# Altium schematic symbol library 6903 6728 xx 76.SchLib: 12 symbols
Pins are listed as number, name and electrical type; pins without a type are passive.

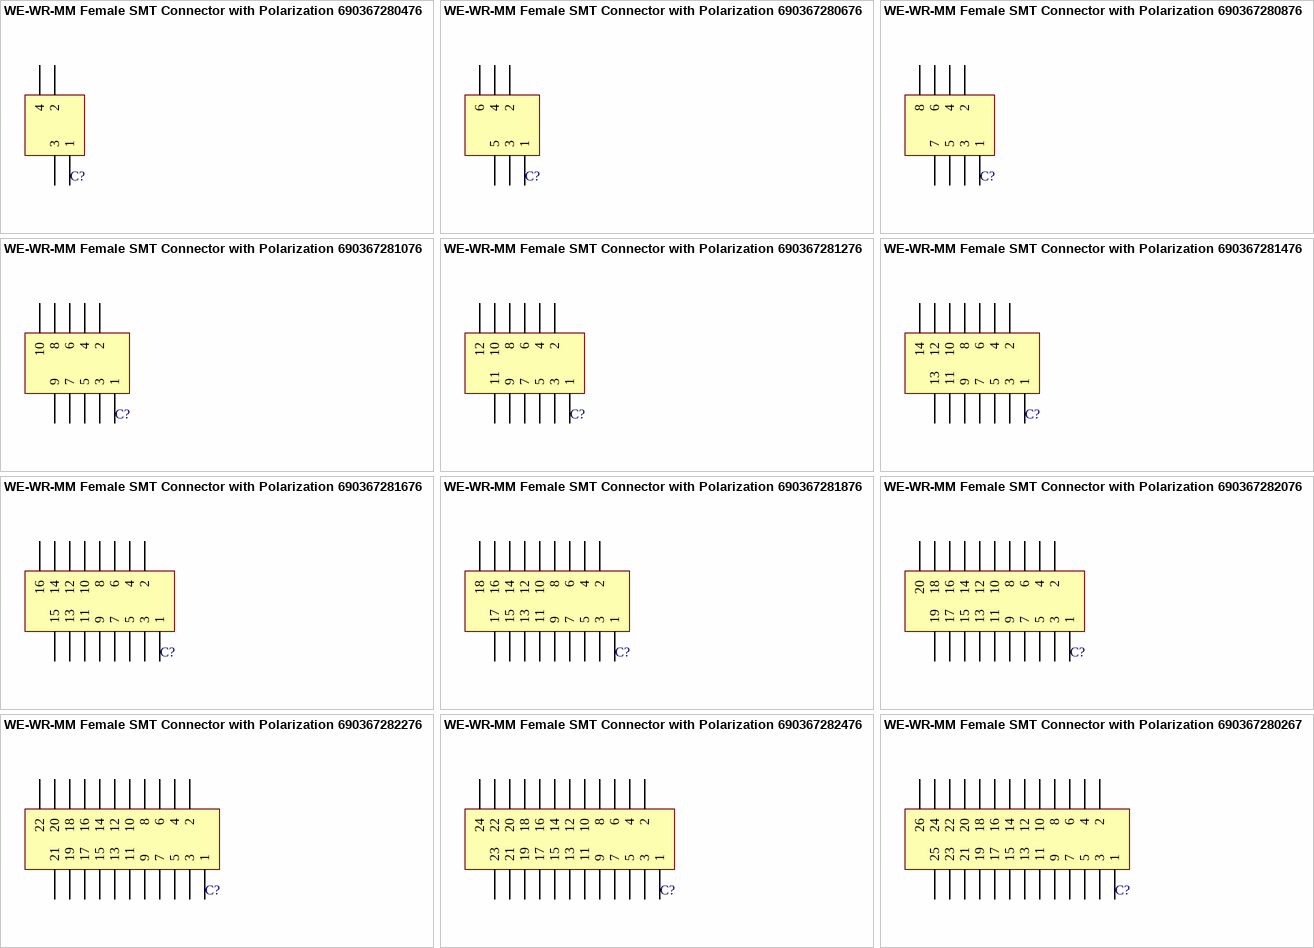
[diagram p0: symbols WE-WR-MM Female SMT Connector with Polarization 690367280476 to WE-WR-MM Female SMT Connector with Polarization 6903672802676]

## WE-WR-MM Female SMT Connector with Polarization 690367280476
designator C?
WR-MM Female SMT Connector with Polarization; Manufacturer: Würth Elektronik eiSos GmbH; ComponentLink1 Description: Manufacturer; ComponentLink2 Description: Datasheet; NoPins: 4; Created Date: 17 April 2013; partNo: 690367280476; ComponentLink1URL: http://www.we-online.com; ComponentLink2URL: http://katalog.we-online.de/em/datasheet/69036728xx76.pdf; Created by: Karrer Zheng
footprint 690367280476 (without Latch, 4 pins, SMT, straight)
pins: 1, 2, 3, 4

## WE-WR-MM Female SMT Connector with Polarization 690367280676
designator C?
WR-MM Female SMT Connector with Polarization; Manufacturer: Würth Elektronik eiSos GmbH; ComponentLink1 Description: Manufacturer; ComponentLink2 Description: Datasheet; NoPins: 6; Created Date: 17 April 2013; partNo: 690367280676; ComponentLink1URL: http://www.we-online.com; ComponentLink2URL: http://katalog.we-online.de/em/datasheet/69036728xx76.pdf; Created by: Karrer Zheng
footprint 690367280676 (without Latch, 6 pins, SMT, straight)
pins: 1, 2, 3, 4, 5, 6

## WE-WR-MM Female SMT Connector with Polarization 690367280876
designator C?
WR-MM Female SMT Connector with Polarization; Manufacturer: Würth Elektronik eiSos GmbH; ComponentLink1 Description: Manufacturer; ComponentLink2 Description: Datasheet; NoPins: 8; Created Date: 17 April 2013; partNo: 690367280876; ComponentLink1URL: http://www.we-online.com; ComponentLink2URL: http://katalog.we-online.de/em/datasheet/69036728xx76.pdf; Created by: Karrer Zheng
footprint 690367280876 (without Latch, 8 pins, SMT, straight)
pins: 1, 2, 3, 4, 5, 6, 7, 8

## WE-WR-MM Female SMT Connector with Polarization 690367281076
designator C?
WR-MM Female SMT Connector with Polarization; Manufacturer: Würth Elektronik eiSos GmbH; ComponentLink1 Description: Manufacturer; ComponentLink2 Description: Datasheet; NoPins: 10; Created Date: 17 April 2013; partNo: 690367281076; ComponentLink1URL: http://www.we-online.com; ComponentLink2URL: http://katalog.we-online.de/em/datasheet/69036728xx76.pdf; Created by: Karrer Zheng
footprint 690367281076 (without Latch, 10 pins, SMT, straight)
pins: 1, 2, 3, 4, 5, 6, 7, 8, 9, 10

## WE-WR-MM Female SMT Connector with Polarization 690367281276
designator C?
WR-MM Female SMT Connector with Polarization; Manufacturer: Würth Elektronik eiSos GmbH; ComponentLink1 Description: Manufacturer; ComponentLink2 Description: Datasheet; NoPins: 12; Created Date: 17 April 2013; partNo: 690367281276; ComponentLink1URL: http://www.we-online.com; ComponentLink2URL: http://katalog.we-online.de/em/datasheet/69036728xx76.pdf; Created by: Karrer Zheng
footprint 690367281276 (without Latch, 12 pins, SMT, straight)
pins: 1, 2, 3, 4, 5, 6, 7, 8, 9, 10, 11, 12

## WE-WR-MM Female SMT Connector with Polarization 690367281476
designator C?
WR-MM Female SMT Connector with Polarization; Manufacturer: Würth Elektronik eiSos GmbH; ComponentLink1 Description: Manufacturer; ComponentLink2 Description: Datasheet; NoPins: 14; Created Date: 17 April 2013; partNo: 690367281476; ComponentLink1URL: http://www.we-online.com; ComponentLink2URL: http://katalog.we-online.de/em/datasheet/69036728xx76.pdf; Created by: Karrer Zheng
footprint 690367281476 (without Latch, 14 pins, SMT, straight)
pins: 1, 2, 3, 4, 5, 6, 7, 8, 9, 10, 11, 12, 13, 14

## WE-WR-MM Female SMT Connector with Polarization 690367281676
designator C?
WR-MM Female SMT Connector with Polarization; Manufacturer: Würth Elektronik eiSos GmbH; ComponentLink1 Description: Manufacturer; ComponentLink2 Description: Datasheet; NoPins: 16; Created Date: 17 April 2013; partNo: 690367281676; ComponentLink1URL: http://www.we-online.com; ComponentLink2URL: http://katalog.we-online.de/em/datasheet/69036728xx76.pdf; Created by: Karrer Zheng
footprint 690367281676 (without Latch, 16 pins, SMT, straight)
pins: 1, 2, 3, 4, 5, 6, 7, 8, 9, 10, 11, 12, 13, 14, 15, 16

## WE-WR-MM Female SMT Connector with Polarization 690367281876
designator C?
WR-MM Female SMT Connector with Polarization; Manufacturer: Würth Elektronik eiSos GmbH; ComponentLink1 Description: Manufacturer; ComponentLink2 Description: Datasheet; NoPins: 18; Created Date: 17 April 2013; partNo: 690367281876; ComponentLink1URL: http://www.we-online.com; ComponentLink2URL: http://katalog.we-online.de/em/datasheet/69036728xx76.pdf; Created by: Karrer Zheng
footprint 690367281876 (without Latch, 18 pins, SMT, straight)
pins: 1, 2, 3, 4, 5, 6, 7, 8, 9, 10, 11, 12, 13, 14, 15, 16, 17, 18

## WE-WR-MM Female SMT Connector with Polarization 690367282076
designator C?
WR-MM Female SMT Connector with Polarization; Manufacturer: Würth Elektronik eiSos GmbH; ComponentLink1 Description: Manufacturer; ComponentLink2 Description: Datasheet; NoPins: 20; Created Date: 17 April 2013; partNo: 690367282076; ComponentLink1URL: http://www.we-online.com; ComponentLink2URL: http://katalog.we-online.de/em/datasheet/69036728xx76.pdf; Created by: Karrer Zheng
footprint 690367282076 (without Latch, 20 pins, SMT, straight)
pins: 1, 2, 3, 4, 5, 6, 7, 8, 9, 10, 11, 12, 13, 14, 15, 16, 17, 18, 19, 20

## WE-WR-MM Female SMT Connector with Polarization 690367282276
designator C?
WR-MM Female SMT Connector with Polarization; Manufacturer: Würth Elektronik eiSos GmbH; ComponentLink1 Description: Manufacturer; ComponentLink2 Description: Datasheet; NoPins: 22; Created Date: 17 April 2013; partNo: 690367282276; ComponentLink1URL: http://www.we-online.com; ComponentLink2URL: http://katalog.we-online.de/em/datasheet/69036728xx76.pdf; Created by: Karrer Zheng
footprint 690367282276 (without Latch, 22 pins, SMT, straight)
pins: 1, 2, 3, 4, 5, 6, 7, 8, 9, 10, 11, 12, 13, 14, 15, 16, 17, 18, 19, 20, 21, 22

## WE-WR-MM Female SMT Connector with Polarization 690367282476
designator C?
WR-MM Female SMT Connector with Polarization; Manufacturer: Würth Elektronik eiSos GmbH; ComponentLink1 Description: Manufacturer; ComponentLink2 Description: Datasheet; NoPins: 24; Created Date: 17 April 2013; partNo: 690367282476; ComponentLink1URL: http://www.we-online.com; ComponentLink2URL: http://katalog.we-online.de/em/datasheet/69036728xx76.pdf; Created by: Karrer Zheng
footprint 690367282476 (without Latch, 24 pins, SMT, straight)
pins: 1, 2, 3, 4, 5, 6, 7, 8, 9, 10, 11, 12, 13, 14, 15, 16, 17, 18, 19, 20, 21, 22, 23, 24

## WE-WR-MM Female SMT Connector with Polarization 6903672802676
designator C?
WR-MM Female SMT Connector with Polarization; Manufacturer: Würth Elektronik eiSos GmbH; ComponentLink1 Description: Manufacturer; ComponentLink2 Description: Datasheet; NoPins: 26; Created Date: 17 April 2013; partNo: 6903672802676; ComponentLink1URL: http://www.we-online.com; ComponentLink2URL: http://katalog.we-online.de/em/datasheet/69036728xx76.pdf; Created by: Karrer Zheng
footprint 690367282676 (without Latch, 26 pins, SMT, straight)
pins: 1, 2, 3, 4, 5, 6, 7, 8, 9, 10, 11, 12, 13, 14, 15, 16, 17, 18, 19, 20, 21, 22, 23, 24, 25, 26